# Altium footprint library L_Inductance.PcbLib: 1 footprints
Each footprint in its own frame and in the unit in brackets; x right, y up, seen from the top. Pads: shape width x height; smd on the part's side, far side on the other; paste and mask are expansions set on the pad; w line width, h text height; cw(c..) or ccw(c..) is an arc to the next point about the centre after c.
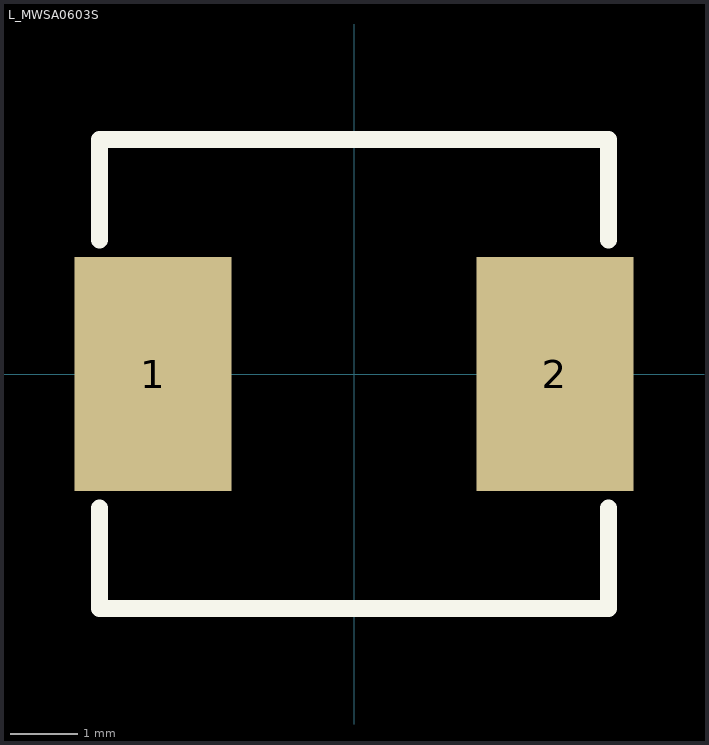
[diagram p0: the footprint, top view; thin cyan lines are the x and y axes]

## L_MWSA0603S [mm]
pads (2):
  rect 2.35x3.5 smd: 1(-3,0) 2(3,0)
Top Overlay:
  lines w0.254: -3.8,-2 -3.8,-3.5 3.8,-3.5 3.8,-2 ; -3.8,2 -3.8,3.5 3.8,3.5 3.8,2
3D body "MWSA0603S.STEP": height 2.8, standoff 0, extent -3.6,-3.3 3.6,3.3